# EAGLE library part LOGIC,NAND:MC10EL04(ECL/PECL) (library QuantumOptics)
MC10EL04, On Semi, ECL/PECL 2-input NAND/AND, SE in to Diff out, SOIC-8.
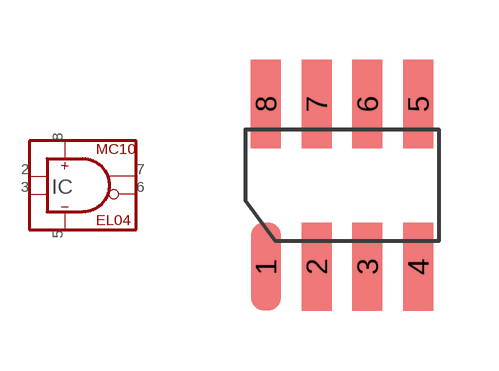
[diagram p33: symbol with the pads of SOIC-8; footprint SOIC-8]

Designator prefix IC

## LOGIC,NAND:MC10EL04(ECL/PECL)D  [SOIC-8]
2  IN1  in
3  IN2  in
5  VEE  in
6  ~Q  out
7  Q  out
8  VCC  in

## Footprint SOIC-8 (pad centres in mm)
SOIC-8 (AKA SO-8), pads on 0.050" grid.
smd 0.75 x 2.2: 1 -1.27,-2.032; 2 0,-2.032; 3 1.27,-2.032; 4 2.54,-2.032; 5 2.54,2.032; 6 1.27,2.032; 7 0,2.032; 8 -1.27,2.032